# Altium integrated library Cypress PSoC 5LP.IntLib: 27 symbols (part 3 of 3)
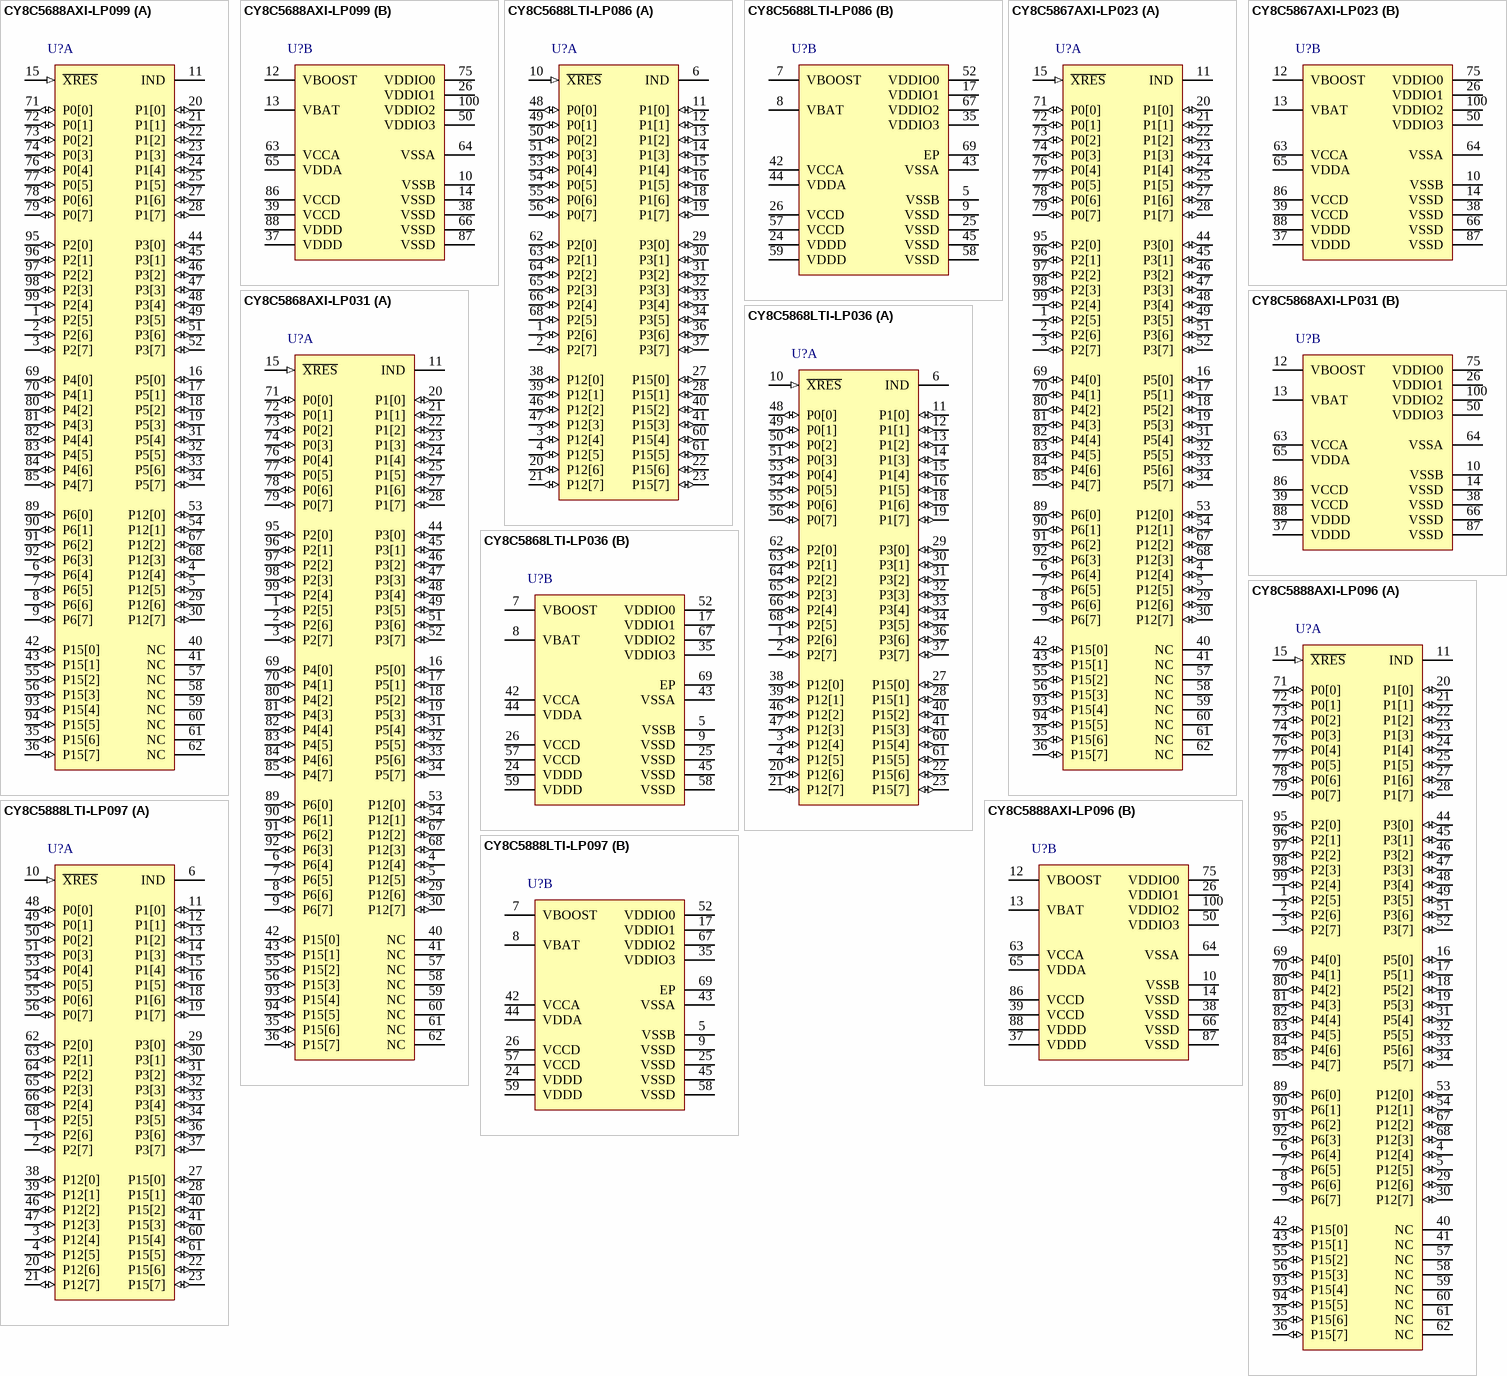
[diagram p5: symbols CY8C5688AXI-LP099 to CY8C5888LTI-LP097]

## CY8C5868AXI-LP031
designator U?
PSoC Programmable System-on-Chip, 256 KB Flash, 62 GPIOs, 1.71 to 5.5 V, 100-Pin TQFP (AX100), Tray; Manufacturer: Cypress; PartNumber: CY8C5868AXI-LP031; CPU Core: ARM Cortex-M3; Flash (KB): 256; Max. Operating Frequency (MHz): 67; Max. Operating Voltage (V): 5.5; Min. Operating Voltage (V): 1.71; No. of GPIOs: 62; SRAM (KB): 64; DatasheetVersion: Rev. *E; PackageVersion: Rev. *D, 12/2009; PackageReference: AX100; PackageDescription: 100-Pin Thin Plastic Quad Flatpack, Body 14 x14 mm, Pitch 0.5 mm; Max. Operating Temp. (degreesC): 85; Min. Operating Temp. (degreesC): -40; Packing: Tray; Mounting Technology: Surface Mount; Code_JEDEC: MS-026; ComponentLink1Description: Manufacturer URL; ComponentLink1URL: http://www.cypress.com/; ComponentLink2Description: Datasheet; ComponentLink2URL: http://www.cypress.com/?docID=47570; ComponentLink3Description: Package Specification; ComponentLink3URL: http://www.cypress.com/?docID=45180
footprint CYP-AX100_N (QFN, 100-Leads, Body 14x14mm, Pitch 0.5mm, IPC Medium Density)
footprint CYP-AX100_L (QFN, 100-Leads, Body 14x14mm, Pitch 0.5mm, IPC High Density)
footprint CYP-AX100_M (QFN, 100-Leads, Body 14x14mm, Pitch 0.5mm, IPC Low Density)
part A pins: 1 P2[5] (io), 2 P2[6] (io), 3 P2[7] (io), 4 P12[4] (io), 5 P12[5] (io), 6 P6[4] (io), 7 P6[5] (io), 8 P6[6] (io), 9 P6[7] (io), 11 IND "Inductor connection to boost pump.", 15 ~{XRES} (in) "External reset pin. Active low with internal pull-up", 16 P5[0] (io), 17 P5[1] (io), 18 P5[2] (io), 19 P5[3] (io), 20 P1[0] (io), 21 P1[1] (io), 22 P1[2] (io), 23 P1[3] (io), 24 P1[4] (io), 25 P1[5] (io), 27 P1[6] (io), 28 P1[7] (io), 29 P12[6] (io), 30 P12[7] (io), 31 P5[4] (io), 32 P5[5] (io), 33 P5[6] (io), 34 P5[7] (io), 35 P15[6] (io), 36 P15[7] (io), 40 NC, 41 NC, 42 P15[0] (io), 43 P15[1] (io), 44 P3[0] (io), 45 P3[1] (io), 46 P3[2] (io), 47 P3[3] (io), 48 P3[4] (io), 49 P3[5] (io), 51 P3[6] (io), 52 P3[7] (io), 53 P12[0] (io), 54 P12[1] (io), 55 P15[2] (io), 56 P15[3] (io), 57 NC, 58 NC, 59 NC, 60 NC, 61 NC, 62 NC, 67 P12[2] (io), 68 P12[3] (io), 69 P4[0] (io), 70 P4[1] (io), 71 P0[0] (io), 72 P0[1] (io), 73 P0[2] (io), 74 P0[3] (io), 76 P0[4] (io), 77 P0[5] (io), 78 P0[6] (io), 79 P0[7] (io), 80 P4[2] (io), 81 P4[3] (io), 82 P4[4] (io), 83 P4[5] (io), 84 P4[6] (io), 85 P4[7] (io), 89 P6[0] (io), 90 P6[1] (io), 91 P6[2] (io), 92 P6[3] (io), 93 P15[4] (io), 94 P15[5] (io), 95 P2[0] (io), 96 P2[1] (io), 97 P2[2] (io), 98 P2[3] (io), 99 P2[4] (io)
part B pins: 10 VSSB (power) "Ground connection for boost pump.", 12 VBOOST (power) "Power sense connection to boost pump.", 13 VBAT (power) "Battery supply to boost pump.", 14 VSSD (power) "Ground for all digital logic and I/O pins.", 26 VDDIO1 (power) "Supply for I/O pins. See pinouts for specific I/O pin to VDDIO mapping. Each VDDIO must be tied to a valid operating voltage (1.71 V to 5.5 V), and must be less than or equal to VDDA.", 37 VDDD (power) "Supply for all digital peripherals and digital core regulator. VDDA must be less than or equal to VDDA.", 38 VSSD (power) "Ground for all digital logic and I/O pins.", 39 VCCD (power) "Output of digital core regulator and input to digital core. The two Vccd pins must be shorted together, with the trace between them as short as possible, and a 1 uF capacitor to VSSD (10 uF is required for sleep mode. See (See Datasheet)", 50 VDDIO3 (power) "Supply for I/O pins. See pinouts for specific I/O pin to VDDIO mapping. Each VDDIO must be tied to a valid operating voltage (1.71 V to 5.5 V), and must be less than or equal to VDDA.", 63 VCCA (power) "Output of the analog core regulator or the input to the analog core. Requires a 1uF capacitor to VSSA. The regulator output is not designed to drive external circuits.", 64 VSSA (power) "Ground for all analog peripherals.", 65 VDDA (power) "Supply for all analog peripherals and analog core regulator.  VDDA must be the highest voltage present on the device. All  other supply pins must be less than or equal to VDDA.", 66 VSSD (power) "Ground for all digital logic and I/O pins.", 75 VDDIO0 (power) "Supply for I/O pins. Each VDDIO must be tied to a valid operating  voltage (2.7 V to 5.5 V), and must be less than or equal to Vdda.", 86 VCCD (power) "Output of digital core regulator and input to digital core. The two Vccd pins must be shorted together, with the trace between them as short as possible, and a 1 uF capacitor to VSSD (10 uF is required for sleep mode. See (See Datasheet)", 87 VSSD (power) "Ground for all digital logic and I/O pins.", 88 VDDD (power) "Supply for all digital peripherals and digital core regulator. VDDA must be less than or equal to VDDA.", 100 VDDIO2 (power) "Supply for I/O pins. See pinouts for specific I/O pin to VDDIO mapping. Each VDDIO must be tied to a valid operating voltage (1.71 V to 5.5 V), and must be less than or equal to VDDA."

## CY8C5868LTI-LP036
designator U?
PSoC Programmable System-on-Chip, 256 KB Flash, 38 GPIOs, 1.71 to 5.5 V, 68-Pin QFN (LTX68), Tray; Manufacturer: Cypress; PartNumber: CY8C5868LTI-LP036; CPU Core: ARM Cortex-M3; Flash (KB): 256; Max. Operating Frequency (MHz): 67; Max. Operating Voltage (V): 5.5; Min. Operating Voltage (V): 1.71; No. of GPIOs: 38; SRAM (KB): 64; DatasheetVersion: Rev. *E; PackageVersion: Rev. *E, 07/2012; PackageReference: LTX68; PackageDescription: 68-Pin Quad Flat No Lead, Body 8.00 x 8.00 mm, Pitch 0.40 mm; Max. Operating Temp. (degreesC): 85; Min. Operating Temp. (degreesC): -40; Packing: Tray; Mounting Technology: Surface Mount; Code_JEDEC: MO-220; ComponentLink1Description: Manufacturer URL; ComponentLink1URL: http://www.cypress.com/; ComponentLink2Description: Datasheet; ComponentLink2URL: http://www.cypress.com/?docID=47570; ComponentLink3Description: Package Specification; ComponentLink3URL: http://www.cypress.com/?docID=38892
footprint CYP-LTX68_N (QFN, 68-Leads, Body 8x8mm, Pitch 0.4mm, Thermal Pad 5.7x5.7mm, IPC Medium Density)
footprint CYP-LTX68_L (QFN, 68-Leads, Body 8x8mm, Pitch 0.4mm, Thermal Pad 5.7x5.7mm, IPC High Density)
footprint CYP-LTX68_M (QFN, 68-Leads, Body 8x8mm, Pitch 0.4mm, Thermal Pad 5.7x5.7mm, IPC Low Density)
part A pins: 1 P2[6] (io), 2 P2[7] (io), 3 P12[4] (io), 4 P12[5] (io), 6 IND "Inductor connection to boost pump.", 10 ~{XRES} (in) "External reset pin. Active low with internal pull-up", 11 P1[0] (io), 12 P1[1] (io), 13 P1[2] (io), 14 P1[3] (io), 15 P1[4] (io), 16 P1[5] (io), 18 P1[6] (io), 19 P1[7] (io), 20 P12[6] (io), 21 P12[7] (io), 22 P15[6] (io), 23 P15[7] (io), 27 P15[0] (io), 28 P15[1] (io), 29 P3[0] (io), 30 P3[1] (io), 31 P3[2] (io), 32 P3[3] (io), 33 P3[4] (io), 34 P3[5] (io), 36 P3[6] (io), 37 P3[7] (io), 38 P12[0] (io), 39 P12[1] (io), 40 P15[2] (io), 41 P15[3] (io), 46 P12[2] (io), 47 P12[3] (io), 48 P0[0] (io), 49 P0[1] (io), 50 P0[2] (io), 51 P0[3] (io), 53 P0[4] (io), 54 P0[5] (io), 55 P0[6] (io), 56 P0[7] (io), 60 P15[4] (io), 61 P15[5] (io), 62 P2[0] (io), 63 P2[1] (io), 64 P2[2] (io), 65 P2[3] (io), 66 P2[4] (io), 68 P2[5] (io)
part B pins: 5 VSSB (power) "Ground connection for boost pump.", 7 VBOOST (power) "Power sense connection to boost pump.", 8 VBAT (power) "Battery supply to boost pump.", 9 VSSD (power) "Ground for all digital logic and I/O pins.", 17 VDDIO1 (power), 24 VDDD (power) "Supply for all digital peripherals and digital core regulator. VDDA must be less than or equal to VDDA.", 25 VSSD (power) "Ground for all digital logic and I/O pins.", 26 VCCD (power), 35 VDDIO3 (power), 42 VCCA (power) "Output of the analog core regulator or the input to the analog core. Requires a 1uF capacitor to VSSA. The regulator output is not designed to drive external circuits.", 43 VSSA (power) "Ground for all analog peripherals.", 44 VDDA (power), 45 VSSD (power) "Ground for all digital logic and I/O pins.", 52 VDDIO0 (power) "Supply for I/O pins. Each VDDIO must be tied to a valid operating  voltage (2.7 V to 5.5 V), and must be less than or equal to Vdda.", 57 VCCD (power), 58 VSSD (power) "Ground for all digital logic and I/O pins.", 59 VDDD (power) "Supply for all digital peripherals and digital core regulator. VDDA must be less than or equal to VDDA.", 67 VDDIO2 (power) "Supply for I/O pins. See pinouts for specific I/O pin to VDDIO mapping. Each VDDIO must be tied to a valid operating voltage (1.71 V to 5.5 V), and must be less than or equal to VDDA.", 69 EP (power)

## CY8C5888AXI-LP096
designator U?
PSoC Programmable System-on-Chip, 256 KB Flash, 62 GPIOs, 1.71 to 5.5 V, 100-Pin TQFP (AX100), Tray; Manufacturer: Cypress; PartNumber: CY8C5888AXI-LP096; CPU Core: ARM Cortex-M3; Flash (KB): 256; Max. Operating Frequency (MHz): 80; Max. Operating Voltage (V): 5.5; Min. Operating Voltage (V): 1.71; No. of GPIOs: 62; SRAM (KB): 64; DatasheetVersion: Rev. *E; PackageVersion: Rev. *D, 12/2009; PackageReference: AX100; PackageDescription: 100-Pin Thin Plastic Quad Flatpack, Body 14 x14 mm, Pitch 0.5 mm; Max. Operating Temp. (degreesC): 85; Min. Operating Temp. (degreesC): -40; Packing: Tray; Mounting Technology: Surface Mount; Code_JEDEC: MS-026; ComponentLink1Description: Manufacturer URL; ComponentLink1URL: http://www.cypress.com/; ComponentLink2Description: Datasheet; ComponentLink2URL: http://www.cypress.com/?docID=47570; ComponentLink3Description: Package Specification; ComponentLink3URL: http://www.cypress.com/?docID=45180
footprint CYP-AX100_N (QFN, 100-Leads, Body 14x14mm, Pitch 0.5mm, IPC Medium Density)
footprint CYP-AX100_L (QFN, 100-Leads, Body 14x14mm, Pitch 0.5mm, IPC High Density)
footprint CYP-AX100_M (QFN, 100-Leads, Body 14x14mm, Pitch 0.5mm, IPC Low Density)
part A pins: 1 P2[5] (io), 2 P2[6] (io), 3 P2[7] (io), 4 P12[4] (io), 5 P12[5] (io), 6 P6[4] (io), 7 P6[5] (io), 8 P6[6] (io), 9 P6[7] (io), 11 IND "Inductor connection to boost pump.", 15 ~{XRES} (in) "External reset pin. Active low with internal pull-up", 16 P5[0] (io), 17 P5[1] (io), 18 P5[2] (io), 19 P5[3] (io), 20 P1[0] (io), 21 P1[1] (io), 22 P1[2] (io), 23 P1[3] (io), 24 P1[4] (io), 25 P1[5] (io), 27 P1[6] (io), 28 P1[7] (io), 29 P12[6] (io), 30 P12[7] (io), 31 P5[4] (io), 32 P5[5] (io), 33 P5[6] (io), 34 P5[7] (io), 35 P15[6] (io), 36 P15[7] (io), 40 NC, 41 NC, 42 P15[0] (io), 43 P15[1] (io), 44 P3[0] (io), 45 P3[1] (io), 46 P3[2] (io), 47 P3[3] (io), 48 P3[4] (io), 49 P3[5] (io), 51 P3[6] (io), 52 P3[7] (io), 53 P12[0] (io), 54 P12[1] (io), 55 P15[2] (io), 56 P15[3] (io), 57 NC, 58 NC, 59 NC, 60 NC, 61 NC, 62 NC, 67 P12[2] (io), 68 P12[3] (io), 69 P4[0] (io), 70 P4[1] (io), 71 P0[0] (io), 72 P0[1] (io), 73 P0[2] (io), 74 P0[3] (io), 76 P0[4] (io), 77 P0[5] (io), 78 P0[6] (io), 79 P0[7] (io), 80 P4[2] (io), 81 P4[3] (io), 82 P4[4] (io), 83 P4[5] (io), 84 P4[6] (io), 85 P4[7] (io), 89 P6[0] (io), 90 P6[1] (io), 91 P6[2] (io), 92 P6[3] (io), 93 P15[4] (io), 94 P15[5] (io), 95 P2[0] (io), 96 P2[1] (io), 97 P2[2] (io), 98 P2[3] (io), 99 P2[4] (io)
part B pins: 10 VSSB (power) "Ground connection for boost pump.", 12 VBOOST (power) "Power sense connection to boost pump.", 13 VBAT (power) "Battery supply to boost pump.", 14 VSSD (power) "Ground for all digital logic and I/O pins.", 26 VDDIO1 (power) "Supply for I/O pins. See pinouts for specific I/O pin to VDDIO mapping. Each VDDIO must be tied to a valid operating voltage (1.71 V to 5.5 V), and must be less than or equal to VDDA.", 37 VDDD (power) "Supply for all digital peripherals and digital core regulator. VDDA must be less than or equal to VDDA.", 38 VSSD (power) "Ground for all digital logic and I/O pins.", 39 VCCD (power) "Output of digital core regulator and input to digital core. The two Vccd pins must be shorted together, with the trace between them as short as possible, and a 1 uF capacitor to VSSD (10 uF is required for sleep mode. See (See Datasheet)", 50 VDDIO3 (power) "Supply for I/O pins. See pinouts for specific I/O pin to VDDIO mapping. Each VDDIO must be tied to a valid operating voltage (1.71 V to 5.5 V), and must be less than or equal to VDDA.", 63 VCCA (power) "Output of the analog core regulator or the input to the analog core. Requires a 1uF capacitor to VSSA. The regulator output is not designed to drive external circuits.", 64 VSSA (power) "Ground for all analog peripherals.", 65 VDDA (power) "Supply for all analog peripherals and analog core regulator.  VDDA must be the highest voltage present on the device. All  other supply pins must be less than or equal to VDDA.", 66 VSSD (power) "Ground for all digital logic and I/O pins.", 75 VDDIO0 (power) "Supply for I/O pins. Each VDDIO must be tied to a valid operating  voltage (2.7 V to 5.5 V), and must be less than or equal to Vdda.", 86 VCCD (power) "Output of digital core regulator and input to digital core. The two Vccd pins must be shorted together, with the trace between them as short as possible, and a 1 uF capacitor to VSSD (10 uF is required for sleep mode. See (See Datasheet)", 87 VSSD (power) "Ground for all digital logic and I/O pins.", 88 VDDD (power) "Supply for all digital peripherals and digital core regulator. VDDA must be less than or equal to VDDA.", 100 VDDIO2 (power) "Supply for I/O pins. See pinouts for specific I/O pin to VDDIO mapping. Each VDDIO must be tied to a valid operating voltage (1.71 V to 5.5 V), and must be less than or equal to VDDA."

## CY8C5888LTI-LP097
designator U?
PSoC Programmable System-on-Chip, 256 KB Flash, 38 GPIOs, 1.71 to 5.5 V, 68-Pin QFN (LTX68), Tray; Manufacturer: Cypress; PartNumber: CY8C5888LTI-LP097; CPU Core: ARM Cortex-M3; Flash (KB): 256; Max. Operating Frequency (MHz): 80; Max. Operating Voltage (V): 5.5; Min. Operating Voltage (V): 1.71; No. of GPIOs: 38; SRAM (KB): 64; DatasheetVersion: Rev. *E; PackageVersion: Rev. *E, 07/2012; PackageReference: LTX68; PackageDescription: 68-Pin Quad Flat No Lead, Body 8.00 x 8.00 mm, Pitch 0.40 mm; Max. Operating Temp. (degreesC): 85; Min. Operating Temp. (degreesC): -40; Packing: Tray; Mounting Technology: Surface Mount; Code_JEDEC: MO-220; ComponentLink1Description: Manufacturer URL; ComponentLink1URL: http://www.cypress.com/; ComponentLink2Description: Datasheet; ComponentLink2URL: http://www.cypress.com/?docID=47570; ComponentLink3Description: Package Specification; ComponentLink3URL: http://www.cypress.com/?docID=38892
footprint CYP-LTX68_N (QFN, 68-Leads, Body 8x8mm, Pitch 0.4mm, Thermal Pad 5.7x5.7mm, IPC Medium Density)
footprint CYP-LTX68_L (QFN, 68-Leads, Body 8x8mm, Pitch 0.4mm, Thermal Pad 5.7x5.7mm, IPC High Density)
footprint CYP-LTX68_M (QFN, 68-Leads, Body 8x8mm, Pitch 0.4mm, Thermal Pad 5.7x5.7mm, IPC Low Density)
part A pins: 1 P2[6] (io), 2 P2[7] (io), 3 P12[4] (io), 4 P12[5] (io), 6 IND "Inductor connection to boost pump.", 10 ~{XRES} (in) "External reset pin. Active low with internal pull-up", 11 P1[0] (io), 12 P1[1] (io), 13 P1[2] (io), 14 P1[3] (io), 15 P1[4] (io), 16 P1[5] (io), 18 P1[6] (io), 19 P1[7] (io), 20 P12[6] (io), 21 P12[7] (io), 22 P15[6] (io), 23 P15[7] (io), 27 P15[0] (io), 28 P15[1] (io), 29 P3[0] (io), 30 P3[1] (io), 31 P3[2] (io), 32 P3[3] (io), 33 P3[4] (io), 34 P3[5] (io), 36 P3[6] (io), 37 P3[7] (io), 38 P12[0] (io), 39 P12[1] (io), 40 P15[2] (io), 41 P15[3] (io), 46 P12[2] (io), 47 P12[3] (io), 48 P0[0] (io), 49 P0[1] (io), 50 P0[2] (io), 51 P0[3] (io), 53 P0[4] (io), 54 P0[5] (io), 55 P0[6] (io), 56 P0[7] (io), 60 P15[4] (io), 61 P15[5] (io), 62 P2[0] (io), 63 P2[1] (io), 64 P2[2] (io), 65 P2[3] (io), 66 P2[4] (io), 68 P2[5] (io)
part B pins: 5 VSSB (power) "Ground connection for boost pump.", 7 VBOOST (power) "Power sense connection to boost pump.", 8 VBAT (power) "Battery supply to boost pump.", 9 VSSD (power) "Ground for all digital logic and I/O pins.", 17 VDDIO1 (power), 24 VDDD (power) "Supply for all digital peripherals and digital core regulator. VDDA must be less than or equal to VDDA.", 25 VSSD (power) "Ground for all digital logic and I/O pins.", 26 VCCD (power), 35 VDDIO3 (power), 42 VCCA (power) "Output of the analog core regulator or the input to the analog core. Requires a 1uF capacitor to VSSA. The regulator output is not designed to drive external circuits.", 43 VSSA (power) "Ground for all analog peripherals.", 44 VDDA (power), 45 VSSD (power) "Ground for all digital logic and I/O pins.", 52 VDDIO0 (power) "Supply for I/O pins. Each VDDIO must be tied to a valid operating  voltage (2.7 V to 5.5 V), and must be less than or equal to Vdda.", 57 VCCD (power), 58 VSSD (power) "Ground for all digital logic and I/O pins.", 59 VDDD (power) "Supply for all digital peripherals and digital core regulator. VDDA must be less than or equal to VDDA.", 67 VDDIO2 (power) "Supply for I/O pins. See pinouts for specific I/O pin to VDDIO mapping. Each VDDIO must be tied to a valid operating voltage (1.71 V to 5.5 V), and must be less than or equal to VDDA.", 69 EP (power)